# EAGLE library part DMP2004VK (library hmcfabstudio)
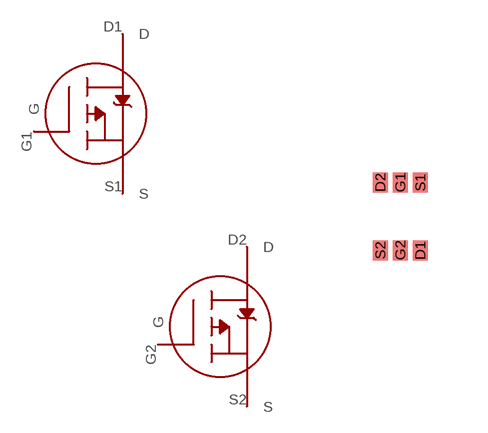
[diagram p18: symbol with the pads of SOT-563; footprint SOT-563]

Designator prefix -; gates G$1=P-CHANNEL_MOSFET G$2=P-CHANNEL_MOSFET

## DMP2004VK  [SOT-563]
D1  G$1:D
D2  G$2:D
G1  G$1:G
G2  G$2:G
S1  G$1:S
S2  G$2:S

## Footprint SOT-563 (pad centres in mm)
smd 0.375 x 0.5: D1 1,0; D2 0,1.7; G1 0.5,1.7; G2 0.5,0; S1 1,1.7; S2 0,0